# EAGLE library part AM3N-*SH30 (library _hhn_aimtec_am3n)
aimtec AM3N Series: 3 W DC/DC-Converters; ±10% Input Range; DIL24-compatible AM3N-xxyySH30: Single output; 3000 V I/O-isolation Packages: DIL24-compatible, metal Note: actual pin assignment depends on output configuration and i/o-isolation voltage, see description Source: http://www.aimtec.ca (DC-DC Converters Catalogue Rev. 1.1) Technologies: xx input voltage (V) yy output voltage (V) (S) Single output (H30) 3000 V I/O-isolation voltage Author: Dipl.-Ing. FH Rainer Bayer HHN Hochschule Heilbronn (Heilbronn University), rainer.bayer@hs-heilbronn.de Ingenieurbüro ing-rb, mail@ing-rb.de
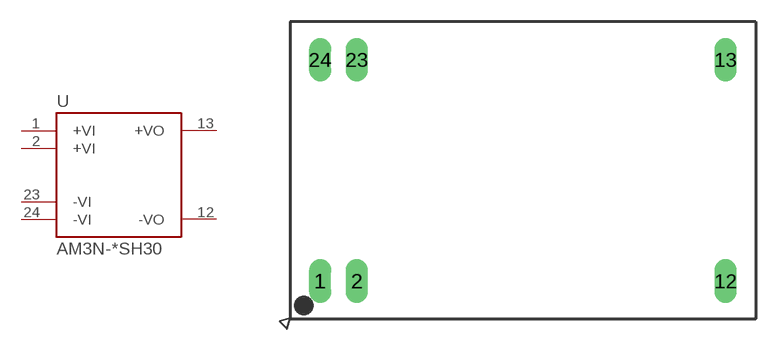
[diagram p2: symbol with the pads of AM3NSH_DIL24; footprint AM3NSH_DIL24]

Designator prefix U

## AM3N-0505SH30, AM3N-0507SH30, AM3N-0509SH30, AM3N-0512SH30, AM3N-0515SH30, AM3N-0518SH30, AM3N-0524SH30, AM3N-1205SH30, AM3N-1207SH30, AM3N-1209SH30, AM3N-1212SH30, AM3N-1215SH30, AM3N-1218SH30, AM3N-1224SH30, AM3N-2405SH30, AM3N-2407SH30, AM3N-2409SH30, AM3N-2412SH30, AM3N-2415SH30, AM3N-2418SH30, AM3N-2424SH30, AM3N-XXYYSH30  [AM3NSH_DIL24]
1  +VI  pwr
2  +VI  pwr
12  -VO  sup
13  +VO  sup
23  -VI  pwr
24  -VI  pwr

## Footprint AM3NSH_DIL24 (pad centres in mm)
aimtec 3W DC/DC-converter: DIL24, 3000 V and 5200 V I/O-isolation, SINGLE output source: http://aimtec.ca; DC-DC Converters Catalogue Rev. 1.1
drill 1 long: 1 -13.97,-7.62; 2 -11.43,-7.62; 12 13.97,-7.62; 13 13.97,7.62; 23 -11.43,7.62; 24 -13.97,7.62